# Altium footprint library MiniUSB-A.PcbLib: 1 footprints
Each footprint in its own frame and in the unit in brackets; x right, y up, seen from the top. Pads: shape width x height; smd on the part's side, far side on the other; paste and mask are expansions set on the pad; w line width, h text height; cw(c..) or ccw(c..) is an arc to the next point about the centre after c.
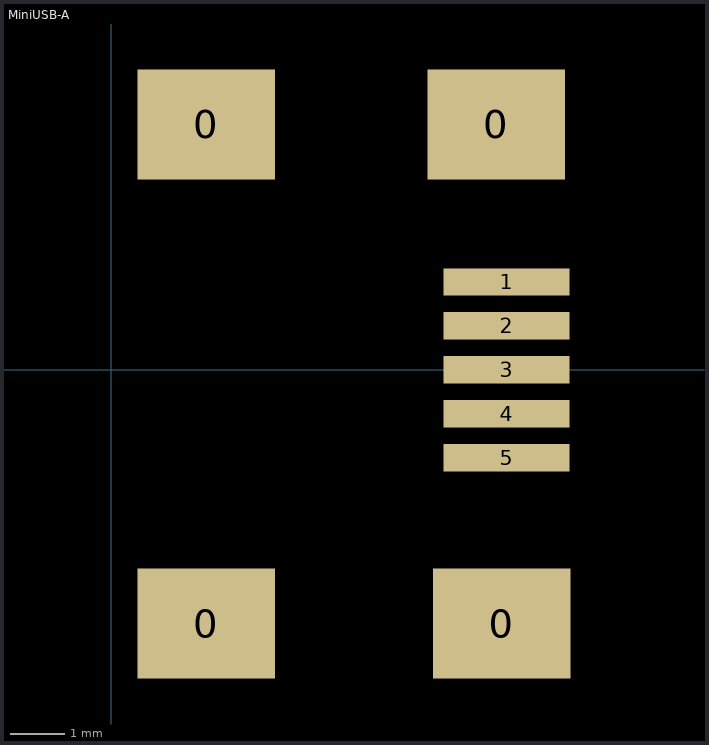
[diagram p0: the footprint, top view; thin cyan lines are the x and y axes]

## MiniUSB-A [mm]
pads (9):
  rect 2.5x2 smd: 0(1.727,-4.623) 0(1.727,4.47) 0(7.01,4.47) 0(7.112,-4.623)
  rect 2.3x0.5 smd: 1(7.2,1.6) 2(7.2,0.8) 3(7.2,0) 4(7.2,-0.8) 5(7.2,-1.6)
3D body "FCI USB 10033526-N3212LF.STEP": height 4.04, standoff -0.96, extent -1.3,-4.951 8.1,4.949